# Altium schematic symbol library ClockDistribution.SchLib: 9 symbols
Pins are listed as number, name and electrical type; pins without a type are passive.

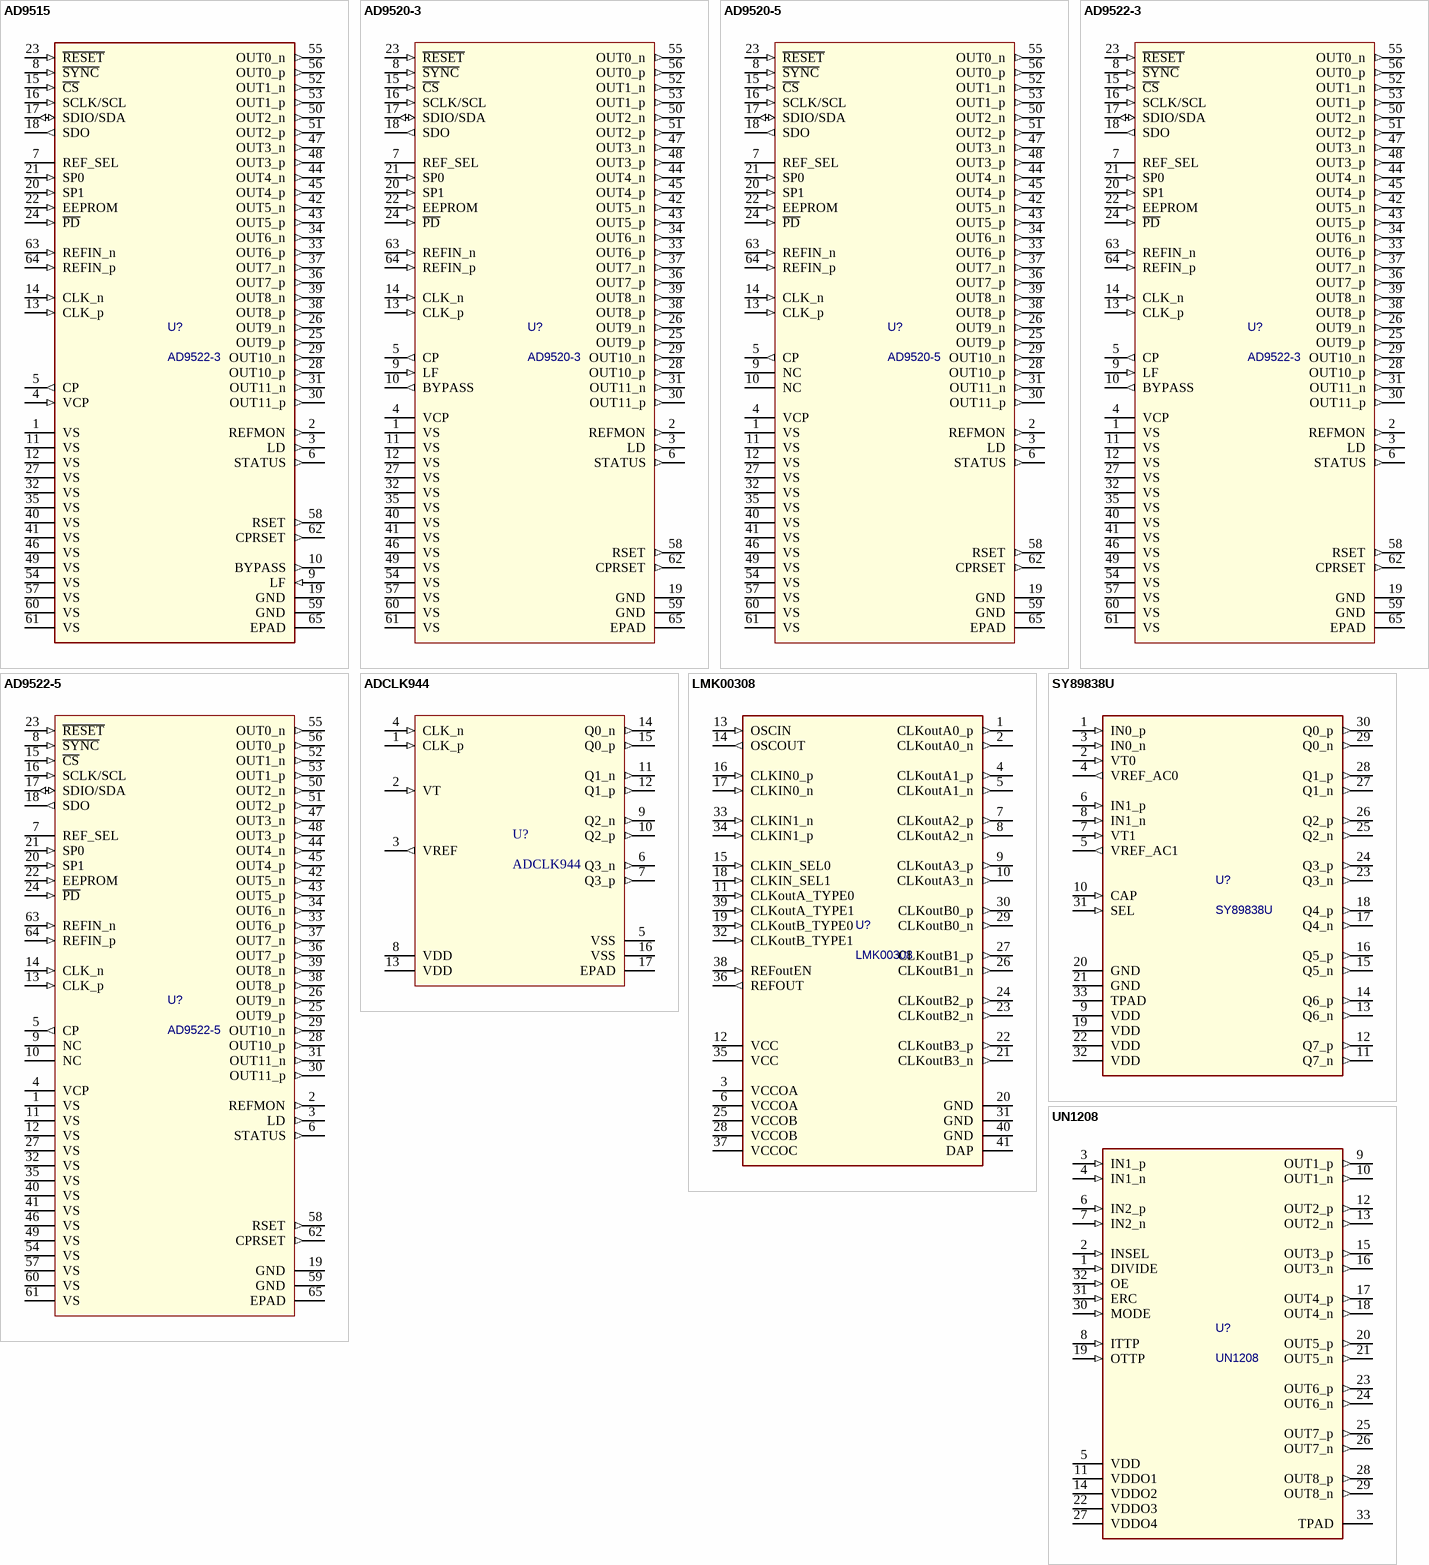
[diagram p0: symbols AD9515 to UN1208]

## AD9515
designator U?, comment AD9522-3
footprint QFN AD9522-3
pins: 1 VS (power), 2 REFMON (out) "Reference Monitor (Output). This pin has multiple selectable outputs.", 3 LD (out) "Lock Detect (Output). This pin has multiple selectable outputs.", 4 VCP (in) "Power Supply for Charge Pump (CP); VS ≤ VCP ≤ 5.25 V. VCP must still be connected to 3.3 V if the PLL is not used.", 5 CP (out) "Charge Pump (Output). This pin connects to an external loop filter. This pin can be left unconnected if the PLL is not used.", 6 STATUS (out) "Programmable Status Output.", 7 REF_SEL, 8 ~{SYNC} (in) "Manual Synchronizations and Manual Holdover. This pin initiates a manual synchronization and is used for manual holdover. Active low. This pin has an internal 30 kΩ pull-up resistor.", 9 LF (in) "Loop Filter (Input). It connects internally to the VCO control voltage node.", 10 BYPASS (out) "This pin is for bypassing the LDO to ground with a 220 nF capacitor.", 11 VS (power), 12 VS (power), 13 CLK_p (in) "Along with #CLK, this pin is the differential input for the clock distribution section.", 14 CLK_n (in) "Along with CLK, this pin is the differential input for the clock distribution section. If a single-ended input is connected to the CLK pin, connect a 0.1 μF bypass capacitor from this pin to ground.", 15 ~{CS} (in) "Serial Control Port Chip Select; Active Low. This pin has an internal 30 kΩ pull-up resistor.", 16 SCLK/SCL (in) "Serial Control Port Clock Signal. This pin has an internal 30 kΩ pull-down resistor in SPI mode but is high impedance in I²C mode.", 17 SDIO/SDA (io) "Serial Control Port Bidirectional Serial Data In/Out.", 18 SDO (out) "Serial Control Port Unidirectional Serial Data Out.", 19 GND (power), 20 SP1 (in) "Select SPI or I²C as the serial interface port and select the I²C slave address in I²C mode. Three-level logic. This pin is internally biased for the open logic level.", 21 SP0 (in) "Select SPI or I²C as the serial interface port and select the I²C slave address in I²C mode. Three-level logic. This pin is internally biased for the open logic level.", 22 EEPROM (in) "Setting this pin high selects the register values stored in the internal EEPROM to be loaded at reset and/or power-up. Setting this pin low causes the AD9522 to load the hard-coded default register values at power-up/reset. This pin has an internal 30 kΩ pull-down resistor. Note that to guarantee the proper loading of EEPROM during startup, a high-low-high pulse on the RESET pin occurs after the power supply stabilizes.", 23 ~{RESET} (in) "Chip Reset, Active Low. This pin has an internal 30 kΩ pull-up resistor.", 24 ~{PD} (in) "Chip Power-Down, Active Low. This pin has an internal 30 kΩ pull-up resistor.", 25 OUT9_p (out) "Clock Output. This pin can be configured as one side of a differential LVDS output or as a single-ended CMOS output.", 26 OUT9_n (out) "Clock Output. This pin can be configured as one side of a differential LVDS output or as a single-ended CMOS output.", 27 VS (power), 28 OUT10_p (out) "Clock Output. This pin can be configured as one side of a differential LVDS output or as a single-ended CMOS output.", 29 OUT10_n (out) "Clock Output. This pin can be configured as one side of a differential LVDS output or as a single-ended CMOS output.", 30 OUT11_p (out) "Clock Output. This pin can be configured as one side of a differential LVDS output or as a single-ended CMOS output.", 31 OUT11_n (out) "Clock Output. This pin can be configured as one side of a differential LVDS output or as a single-ended CMOS output.", 32 VS (power), 33 OUT6_p (out) "Clock Output. This pin can be configured as one side of a differential LVDS output or as a single-ended CMOS output.", 34 OUT6_n (out) "Clock Output. This pin can be configured as one side of a differential LVDS output or as a single-ended CMOS output.", 35 VS (power), 36 OUT7_p (out) "Clock Output. This pin can be configured as one side of a differential LVDS output or as a single-ended CMOS output.", 37 OUT7_n (out) "Clock Output. This pin can be configured as one side of a differential LVDS output or as a single-ended CMOS output.", 38 OUT8_p (out) "Clock Output. This pin can be configured as one side of a differential LVDS output or as a single-ended CMOS output.", 39 OUT8_n (out) "Clock Output. This pin can be configured as one side of a differential LVDS output or as a single-ended CMOS output.", 40 VS (power), 41 VS (power), 42 OUT5_n (out) "Clock Output. This pin can be configured as one side of a differential LVDS output or as a single-ended CMOS output.", 43 OUT5_p (out) "Clock Output. This pin can be configured as one side of a differential LVDS output or as a single-ended CMOS output.", 44 OUT4_n (out) "Clock Output. This pin can be configured as one side of a differential LVDS output or as a single-ended CMOS output.", 45 OUT4_p (out) "Clock Output. This pin can be configured as one side of a differential LVDS output or as a single-ended CMOS output.", 46 VS (power), 47 OUT3_n (out) "Clock Output. This pin can be configured as one side of a differential LVDS output or as a single-ended CMOS output.", 48 OUT3_p (out) "Clock Output. This pin can be configured as one side of a differential LVDS output or as a single-ended CMOS output.", 49 VS (power), 50 OUT2_n (out) "Clock Output. This pin can be configured as one side of a differential LVDS output or as a single-ended CMOS output.", 51 OUT2_p (out) "Clock Output. This pin can be configured as one side of a differential LVDS output or as a single-ended CMOS output.", 52 OUT1_n (out) "Clock Output. This pin can be configured as one side of a differential LVDS output or as a single-ended CMOS output.", 53 OUT1_p (out) "Clock Output. This pin can be configured as one side of a differential LVDS output or as a single-ended CMOS output.", 54 VS (power), 55 OUT0_n (out) "Clock Output. This pin can be configured as one side of a differential LVDS output or as a single-ended CMOS output.", 56 OUT0_p (out) "Clock Output. This pin can be configured as one side of a differential LVDS output or as a single-ended CMOS output.", 57 VS (power), 58 RSET (out) "Clock Distribution Current Set Resistor. Connect a 4.12 kΩ resistor from this pin to GND.", 59 GND (power), 60 VS (power), 61 VS (power), 62 CPRSET (out) "Charge Pump Current Set Resistor. Connect a 5.1 kΩ resistor from this pin to GND. This resistor can be omitted if the PLL is not used.", 63 REFIN_n (in) "Along with REFIN, this is the differential input for the PLL reference. Alternatively, this pin is a single-ended input for REF2.", 64 REFIN_p (in) "Along with #REFIN, this is the differential input for the PLL reference. Alternatively, this pin is a single-ended input for REF2.", 65 EPAD (power) "The exposed die pad must be connected to GND."

## AD9520-3
designator U?
12 LVPECL/24 CMOS Output Clock / Generator with Integrated 2 GHz VCO
footprint QFN AD9522-3
pins: 1 VS (power), 2 REFMON (out) "Reference Monitor (Output). This pin has multiple selectable outputs.", 3 LD (out) "Lock Detect (Output). This pin has multiple selectable outputs.", 4 VCP (power) "Power Supply for Charge Pump (CP); VS ≤ VCP ≤ 5.25 V. VCP must still be connected to 3.3 V if the PLL is not used.", 5 CP (out) "Charge Pump (Output). This pin connects to an external loop filter. This pin can be left unconnected if the PLL is not used.", 6 STATUS (out) "Programmable Status Output.", 7 REF_SEL, 8 ~{SYNC} (in) "Manual Synchronizations and Manual Holdover. This pin initiates a manual synchronization and is used for manual holdover. Active low. This pin has an internal 30 kΩ pull-up resistor.", 9 LF (in) "Loop Filter (Input). It connects internally to the VCO control voltage node.", 10 BYPASS (out) "This pin is for bypassing the LDO to ground with a 220 nF capacitor.", 11 VS (power), 12 VS (power), 13 CLK_p (in) "Along with #CLK, this pin is the differential input for the clock distribution section.", 14 CLK_n (in) "Along with CLK, this pin is the differential input for the clock distribution section. If a single-ended input is connected to the CLK pin, connect a 0.1 μF bypass capacitor from this pin to ground.", 15 ~{CS} (in) "Serial Control Port Chip Select; Active Low. This pin has an internal 30 kΩ pull-up resistor.", 16 SCLK/SCL (in) "Serial Control Port Clock Signal. This pin has an internal 30 kΩ pull-down resistor in SPI mode but is high impedance in I²C mode.", 17 SDIO/SDA (io) "Serial Control Port Bidirectional Serial Data In/Out.", 18 SDO (out) "Serial Control Port Unidirectional Serial Data Out.", 19 GND (power), 20 SP1 (in) "Select SPI or I²C as the serial interface port and select the I²C slave address in I²C mode. Three-level logic. This pin is internally biased for the open logic level.", 21 SP0 (in) "Select SPI or I²C as the serial interface port and select the I²C slave address in I²C mode. Three-level logic. This pin is internally biased for the open logic level.", 22 EEPROM (in) "Setting this pin high selects the register values stored in the internal EEPROM to be loaded at reset and/or power-up. Setting this pin low causes the AD9522 to load the hard-coded default register values at power-up/reset. This pin has an internal 30 kΩ pull-down resistor. Note that to guarantee the proper loading of EEPROM during startup, a high-low-high pulse on the RESET pin occurs after the power supply stabilizes.", 23 ~{RESET} (in) "Chip Reset, Active Low. This pin has an internal 30 kΩ pull-up resistor.", 24 ~{PD} (in) "Chip Power-Down, Active Low. This pin has an internal 30 kΩ pull-up resistor.", 25 OUT9_p (out) "Clock Output. This pin can be configured as one side of a differential LVDS output or as a single-ended CMOS output.", 26 OUT9_n (out) "Clock Output. This pin can be configured as one side of a differential LVDS output or as a single-ended CMOS output.", 27 VS (power), 28 OUT10_p (out) "Clock Output. This pin can be configured as one side of a differential LVDS output or as a single-ended CMOS output.", 29 OUT10_n (out) "Clock Output. This pin can be configured as one side of a differential LVDS output or as a single-ended CMOS output.", 30 OUT11_p (out) "Clock Output. This pin can be configured as one side of a differential LVDS output or as a single-ended CMOS output.", 31 OUT11_n (out) "Clock Output. This pin can be configured as one side of a differential LVDS output or as a single-ended CMOS output.", 32 VS (power), 33 OUT6_p (out) "Clock Output. This pin can be configured as one side of a differential LVDS output or as a single-ended CMOS output.", 34 OUT6_n (out) "Clock Output. This pin can be configured as one side of a differential LVDS output or as a single-ended CMOS output.", 35 VS (power), 36 OUT7_p (out) "Clock Output. This pin can be configured as one side of a differential LVDS output or as a single-ended CMOS output.", 37 OUT7_n (out) "Clock Output. This pin can be configured as one side of a differential LVDS output or as a single-ended CMOS output.", 38 OUT8_p (out) "Clock Output. This pin can be configured as one side of a differential LVDS output or as a single-ended CMOS output.", 39 OUT8_n (out) "Clock Output. This pin can be configured as one side of a differential LVDS output or as a single-ended CMOS output.", 40 VS (power), 41 VS (power), 42 OUT5_n (out) "Clock Output. This pin can be configured as one side of a differential LVDS output or as a single-ended CMOS output.", 43 OUT5_p (out) "Clock Output. This pin can be configured as one side of a differential LVDS output or as a single-ended CMOS output.", 44 OUT4_n (out) "Clock Output. This pin can be configured as one side of a differential LVDS output or as a single-ended CMOS output.", 45 OUT4_p (out) "Clock Output. This pin can be configured as one side of a differential LVDS output or as a single-ended CMOS output.", 46 VS (power), 47 OUT3_n (out) "Clock Output. This pin can be configured as one side of a differential LVDS output or as a single-ended CMOS output.", 48 OUT3_p (out) "Clock Output. This pin can be configured as one side of a differential LVDS output or as a single-ended CMOS output.", 49 VS (power), 50 OUT2_n (out) "Clock Output. This pin can be configured as one side of a differential LVDS output or as a single-ended CMOS output.", 51 OUT2_p (out) "Clock Output. This pin can be configured as one side of a differential LVDS output or as a single-ended CMOS output.", 52 OUT1_n (out) "Clock Output. This pin can be configured as one side of a differential LVDS output or as a single-ended CMOS output.", 53 OUT1_p (out) "Clock Output. This pin can be configured as one side of a differential LVDS output or as a single-ended CMOS output.", 54 VS (power), 55 OUT0_n (out) "Clock Output. This pin can be configured as one side of a differential LVDS output or as a single-ended CMOS output.", 56 OUT0_p (out) "Clock Output. This pin can be configured as one side of a differential LVDS output or as a single-ended CMOS output.", 57 VS (power), 58 RSET (out) "Clock Distribution Current Set Resistor. Connect a 4.12 kΩ resistor from this pin to GND.", 59 GND (power), 60 VS (power), 61 VS (power), 62 CPRSET (out) "Charge Pump Current Set Resistor. Connect a 5.1 kΩ resistor from this pin to GND. This resistor can be omitted if the PLL is not used.", 63 REFIN_n (in) "Along with REFIN, this is the differential input for the PLL reference. Alternatively, this pin is a single-ended input for REF2.", 64 REFIN_p (in) "Along with #REFIN, this is the differential input for the PLL reference. Alternatively, this pin is a single-ended input for REF2.", 65 EPAD (power) "The exposed die pad must be connected to GND."

## AD9520-5
designator U?
12 LVPECL/24 CMOS Output / Clock Generator
footprint QFN AD9522-3
pins: 1 VS (power), 2 REFMON (out) "Reference Monitor (Output). This pin has multiple selectable outputs.", 3 LD (out) "Lock Detect (Output). This pin has multiple selectable outputs.", 4 VCP (power) "Power Supply for Charge Pump (CP); VS ≤ VCP ≤ 5.25 V. VCP must still be connected to 3.3 V if the PLL is not used.", 5 CP (out) "Charge Pump (Output). This pin connects to an external loop filter. This pin can be left unconnected if the PLL is not used.", 6 STATUS (out) "Programmable Status Output.", 7 REF_SEL, 8 ~{SYNC} (in) "Manual Synchronizations and Manual Holdover. This pin initiates a manual synchronization and is used for manual holdover. Active low. This pin has an internal 30 kΩ pull-up resistor.", 9 NC, 10 NC, 11 VS (power), 12 VS (power), 13 CLK_p (in) "Along with #CLK, this pin is the differential input for the clock distribution section.", 14 CLK_n (in) "Along with CLK, this pin is the differential input for the clock distribution section. If a single-ended input is connected to the CLK pin, connect a 0.1 μF bypass capacitor from this pin to ground.", 15 ~{CS} (in) "Serial Control Port Chip Select; Active Low. This pin has an internal 30 kΩ pull-up resistor.", 16 SCLK/SCL (in) "Serial Control Port Clock Signal. This pin has an internal 30 kΩ pull-down resistor in SPI mode but is high impedance in I²C mode.", 17 SDIO/SDA (io) "Serial Control Port Bidirectional Serial Data In/Out.", 18 SDO (out) "Serial Control Port Unidirectional Serial Data Out.", 19 GND (power), 20 SP1 (in) "Select SPI or I²C as the serial interface port and select the I²C slave address in I²C mode. Three-level logic. This pin is internally biased for the open logic level.", 21 SP0 (in) "Select SPI or I²C as the serial interface port and select the I²C slave address in I²C mode. Three-level logic. This pin is internally biased for the open logic level.", 22 EEPROM (in) "Setting this pin high selects the register values stored in the internal EEPROM to be loaded at reset and/or power-up. Setting this pin low causes the AD9522 to load the hard-coded default register values at power-up/reset. This pin has an internal 30 kΩ pull-down resistor. Note that to guarantee the proper loading of EEPROM during startup, a high-low-high pulse on the RESET pin occurs after the power supply stabilizes.", 23 ~{RESET} (in) "Chip Reset, Active Low. This pin has an internal 30 kΩ pull-up resistor.", 24 ~{PD} (in) "Chip Power-Down, Active Low. This pin has an internal 30 kΩ pull-up resistor.", 25 OUT9_p (out) "Clock Output. This pin can be configured as one side of a differential LVDS output or as a single-ended CMOS output.", 26 OUT9_n (out) "Clock Output. This pin can be configured as one side of a differential LVDS output or as a single-ended CMOS output.", 27 VS (power), 28 OUT10_p (out) "Clock Output. This pin can be configured as one side of a differential LVDS output or as a single-ended CMOS output.", 29 OUT10_n (out) "Clock Output. This pin can be configured as one side of a differential LVDS output or as a single-ended CMOS output.", 30 OUT11_p (out) "Clock Output. This pin can be configured as one side of a differential LVDS output or as a single-ended CMOS output.", 31 OUT11_n (out) "Clock Output. This pin can be configured as one side of a differential LVDS output or as a single-ended CMOS output.", 32 VS (power), 33 OUT6_p (out) "Clock Output. This pin can be configured as one side of a differential LVDS output or as a single-ended CMOS output.", 34 OUT6_n (out) "Clock Output. This pin can be configured as one side of a differential LVDS output or as a single-ended CMOS output.", 35 VS (power), 36 OUT7_p (out) "Clock Output. This pin can be configured as one side of a differential LVDS output or as a single-ended CMOS output.", 37 OUT7_n (out) "Clock Output. This pin can be configured as one side of a differential LVDS output or as a single-ended CMOS output.", 38 OUT8_p (out) "Clock Output. This pin can be configured as one side of a differential LVDS output or as a single-ended CMOS output.", 39 OUT8_n (out) "Clock Output. This pin can be configured as one side of a differential LVDS output or as a single-ended CMOS output.", 40 VS (power), 41 VS (power), 42 OUT5_n (out) "Clock Output. This pin can be configured as one side of a differential LVDS output or as a single-ended CMOS output.", 43 OUT5_p (out) "Clock Output. This pin can be configured as one side of a differential LVDS output or as a single-ended CMOS output.", 44 OUT4_n (out) "Clock Output. This pin can be configured as one side of a differential LVDS output or as a single-ended CMOS output.", 45 OUT4_p (out) "Clock Output. This pin can be configured as one side of a differential LVDS output or as a single-ended CMOS output.", 46 VS (power), 47 OUT3_n (out) "Clock Output. This pin can be configured as one side of a differential LVDS output or as a single-ended CMOS output.", 48 OUT3_p (out) "Clock Output. This pin can be configured as one side of a differential LVDS output or as a single-ended CMOS output.", 49 VS (power), 50 OUT2_n (out) "Clock Output. This pin can be configured as one side of a differential LVDS output or as a single-ended CMOS output.", 51 OUT2_p (out) "Clock Output. This pin can be configured as one side of a differential LVDS output or as a single-ended CMOS output.", 52 OUT1_n (out) "Clock Output. This pin can be configured as one side of a differential LVDS output or as a single-ended CMOS output.", 53 OUT1_p (out) "Clock Output. This pin can be configured as one side of a differential LVDS output or as a single-ended CMOS output.", 54 VS (power), 55 OUT0_n (out) "Clock Output. This pin can be configured as one side of a differential LVDS output or as a single-ended CMOS output.", 56 OUT0_p (out) "Clock Output. This pin can be configured as one side of a differential LVDS output or as a single-ended CMOS output.", 57 VS (power), 58 RSET (out) "Clock Distribution Current Set Resistor. Connect a 4.12 kΩ resistor from this pin to GND.", 59 GND (power), 60 VS (power), 61 VS (power), 62 CPRSET (out) "Charge Pump Current Set Resistor. Connect a 5.1 kΩ resistor from this pin to GND. This resistor can be omitted if the PLL is not used.", 63 REFIN_n (in) "Along with REFIN, this is the differential input for the PLL reference. Alternatively, this pin is a single-ended input for REF2.", 64 REFIN_p (in) "Along with #REFIN, this is the differential input for the PLL reference. Alternatively, this pin is a single-ended input for REF2.", 65 EPAD (power) "The exposed die pad must be connected to GND."

## AD9522-3
designator U?
12 LVDS/24 CMOS Output Clock Generator / with Integrated 2 GHz VCO
footprint QFN AD9522-3
pins: 1 VS (power), 2 REFMON (out) "Reference Monitor (Output). This pin has multiple selectable outputs.", 3 LD (out) "Lock Detect (Output). This pin has multiple selectable outputs.", 4 VCP (power) "Power Supply for Charge Pump (CP); VS ≤ VCP ≤ 5.25 V. VCP must still be connected to 3.3 V if the PLL is not used.", 5 CP (out) "Charge Pump (Output). This pin connects to an external loop filter. This pin can be left unconnected if the PLL is not used.", 6 STATUS (out) "Programmable Status Output.", 7 REF_SEL, 8 ~{SYNC} (in) "Manual Synchronizations and Manual Holdover. This pin initiates a manual synchronization and is used for manual holdover. Active low. This pin has an internal 30 kΩ pull-up resistor.", 9 LF (in) "Loop Filter (Input). It connects internally to the VCO control voltage node.", 10 BYPASS (out) "This pin is for bypassing the LDO to ground with a 220 nF capacitor.", 11 VS (power), 12 VS (power), 13 CLK_p (in) "Along with #CLK, this pin is the differential input for the clock distribution section.", 14 CLK_n (in) "Along with CLK, this pin is the differential input for the clock distribution section. If a single-ended input is connected to the CLK pin, connect a 0.1 μF bypass capacitor from this pin to ground.", 15 ~{CS} (in) "Serial Control Port Chip Select; Active Low. This pin has an internal 30 kΩ pull-up resistor.", 16 SCLK/SCL (in) "Serial Control Port Clock Signal. This pin has an internal 30 kΩ pull-down resistor in SPI mode but is high impedance in I²C mode.", 17 SDIO/SDA (io) "Serial Control Port Bidirectional Serial Data In/Out.", 18 SDO (out) "Serial Control Port Unidirectional Serial Data Out.", 19 GND (power), 20 SP1 (in) "Select SPI or I²C as the serial interface port and select the I²C slave address in I²C mode. Three-level logic. This pin is internally biased for the open logic level.", 21 SP0 (in) "Select SPI or I²C as the serial interface port and select the I²C slave address in I²C mode. Three-level logic. This pin is internally biased for the open logic level.", 22 EEPROM (in) "Setting this pin high selects the register values stored in the internal EEPROM to be loaded at reset and/or power-up. Setting this pin low causes the AD9522 to load the hard-coded default register values at power-up/reset. This pin has an internal 30 kΩ pull-down resistor. Note that to guarantee the proper loading of EEPROM during startup, a high-low-high pulse on the RESET pin occurs after the power supply stabilizes.", 23 ~{RESET} (in) "Chip Reset, Active Low. This pin has an internal 30 kΩ pull-up resistor.", 24 ~{PD} (in) "Chip Power-Down, Active Low. This pin has an internal 30 kΩ pull-up resistor.", 25 OUT9_p (out) "Clock Output. This pin can be configured as one side of a differential LVDS output or as a single-ended CMOS output.", 26 OUT9_n (out) "Clock Output. This pin can be configured as one side of a differential LVDS output or as a single-ended CMOS output.", 27 VS (power), 28 OUT10_p (out) "Clock Output. This pin can be configured as one side of a differential LVDS output or as a single-ended CMOS output.", 29 OUT10_n (out) "Clock Output. This pin can be configured as one side of a differential LVDS output or as a single-ended CMOS output.", 30 OUT11_p (out) "Clock Output. This pin can be configured as one side of a differential LVDS output or as a single-ended CMOS output.", 31 OUT11_n (out) "Clock Output. This pin can be configured as one side of a differential LVDS output or as a single-ended CMOS output.", 32 VS (power), 33 OUT6_p (out) "Clock Output. This pin can be configured as one side of a differential LVDS output or as a single-ended CMOS output.", 34 OUT6_n (out) "Clock Output. This pin can be configured as one side of a differential LVDS output or as a single-ended CMOS output.", 35 VS (power), 36 OUT7_p (out) "Clock Output. This pin can be configured as one side of a differential LVDS output or as a single-ended CMOS output.", 37 OUT7_n (out) "Clock Output. This pin can be configured as one side of a differential LVDS output or as a single-ended CMOS output.", 38 OUT8_p (out) "Clock Output. This pin can be configured as one side of a differential LVDS output or as a single-ended CMOS output.", 39 OUT8_n (out) "Clock Output. This pin can be configured as one side of a differential LVDS output or as a single-ended CMOS output.", 40 VS (power), 41 VS (power), 42 OUT5_n (out) "Clock Output. This pin can be configured as one side of a differential LVDS output or as a single-ended CMOS output.", 43 OUT5_p (out) "Clock Output. This pin can be configured as one side of a differential LVDS output or as a single-ended CMOS output.", 44 OUT4_n (out) "Clock Output. This pin can be configured as one side of a differential LVDS output or as a single-ended CMOS output.", 45 OUT4_p (out) "Clock Output. This pin can be configured as one side of a differential LVDS output or as a single-ended CMOS output.", 46 VS (power), 47 OUT3_n (out) "Clock Output. This pin can be configured as one side of a differential LVDS output or as a single-ended CMOS output.", 48 OUT3_p (out) "Clock Output. This pin can be configured as one side of a differential LVDS output or as a single-ended CMOS output.", 49 VS (power), 50 OUT2_n (out) "Clock Output. This pin can be configured as one side of a differential LVDS output or as a single-ended CMOS output.", 51 OUT2_p (out) "Clock Output. This pin can be configured as one side of a differential LVDS output or as a single-ended CMOS output.", 52 OUT1_n (out) "Clock Output. This pin can be configured as one side of a differential LVDS output or as a single-ended CMOS output.", 53 OUT1_p (out) "Clock Output. This pin can be configured as one side of a differential LVDS output or as a single-ended CMOS output.", 54 VS (power), 55 OUT0_n (out) "Clock Output. This pin can be configured as one side of a differential LVDS output or as a single-ended CMOS output.", 56 OUT0_p (out) "Clock Output. This pin can be configured as one side of a differential LVDS output or as a single-ended CMOS output.", 57 VS (power), 58 RSET (out) "Clock Distribution Current Set Resistor. Connect a 4.12 kΩ resistor from this pin to GND.", 59 GND (power), 60 VS (power), 61 VS (power), 62 CPRSET (out) "Charge Pump Current Set Resistor. Connect a 5.1 kΩ resistor from this pin to GND. This resistor can be omitted if the PLL is not used.", 63 REFIN_n (in) "Along with REFIN, this is the differential input for the PLL reference. Alternatively, this pin is a single-ended input for REF2.", 64 REFIN_p (in) "Along with #REFIN, this is the differential input for the PLL reference. Alternatively, this pin is a single-ended input for REF2.", 65 EPAD (power) "The exposed die pad must be connected to GND."

## AD9522-5
designator U?
12 LVDS/24 CMOS Output / Clock Generator
footprint QFN AD9522-3
pins: 1 VS (power), 2 REFMON (out) "Reference Monitor (Output). This pin has multiple selectable outputs.", 3 LD (out) "Lock Detect (Output). This pin has multiple selectable outputs.", 4 VCP (power) "Power Supply for Charge Pump (CP); VS ≤ VCP ≤ 5.25 V. VCP must still be connected to 3.3 V if the PLL is not used.", 5 CP (out) "Charge Pump (Output). This pin connects to an external loop filter. This pin can be left unconnected if the PLL is not used.", 6 STATUS (out) "Programmable Status Output.", 7 REF_SEL, 8 ~{SYNC} (in) "Manual Synchronizations and Manual Holdover. This pin initiates a manual synchronization and is used for manual holdover. Active low. This pin has an internal 30 kΩ pull-up resistor.", 9 NC, 10 NC, 11 VS (power), 12 VS (power), 13 CLK_p (in) "Along with #CLK, this pin is the differential input for the clock distribution section.", 14 CLK_n (in) "Along with CLK, this pin is the differential input for the clock distribution section. If a single-ended input is connected to the CLK pin, connect a 0.1 μF bypass capacitor from this pin to ground.", 15 ~{CS} (in) "Serial Control Port Chip Select; Active Low. This pin has an internal 30 kΩ pull-up resistor.", 16 SCLK/SCL (in) "Serial Control Port Clock Signal. This pin has an internal 30 kΩ pull-down resistor in SPI mode but is high impedance in I²C mode.", 17 SDIO/SDA (io) "Serial Control Port Bidirectional Serial Data In/Out.", 18 SDO (out) "Serial Control Port Unidirectional Serial Data Out.", 19 GND (power), 20 SP1 (in) "Select SPI or I²C as the serial interface port and select the I²C slave address in I²C mode. Three-level logic. This pin is internally biased for the open logic level.", 21 SP0 (in) "Select SPI or I²C as the serial interface port and select the I²C slave address in I²C mode. Three-level logic. This pin is internally biased for the open logic level.", 22 EEPROM (in) "Setting this pin high selects the register values stored in the internal EEPROM to be loaded at reset and/or power-up. Setting this pin low causes the AD9522 to load the hard-coded default register values at power-up/reset. This pin has an internal 30 kΩ pull-down resistor. Note that to guarantee the proper loading of EEPROM during startup, a high-low-high pulse on the RESET pin occurs after the power supply stabilizes.", 23 ~{RESET} (in) "Chip Reset, Active Low. This pin has an internal 30 kΩ pull-up resistor.", 24 ~{PD} (in) "Chip Power-Down, Active Low. This pin has an internal 30 kΩ pull-up resistor.", 25 OUT9_p (out) "Clock Output. This pin can be configured as one side of a differential LVDS output or as a single-ended CMOS output.", 26 OUT9_n (out) "Clock Output. This pin can be configured as one side of a differential LVDS output or as a single-ended CMOS output.", 27 VS (power), 28 OUT10_p (out) "Clock Output. This pin can be configured as one side of a differential LVDS output or as a single-ended CMOS output.", 29 OUT10_n (out) "Clock Output. This pin can be configured as one side of a differential LVDS output or as a single-ended CMOS output.", 30 OUT11_p (out) "Clock Output. This pin can be configured as one side of a differential LVDS output or as a single-ended CMOS output.", 31 OUT11_n (out) "Clock Output. This pin can be configured as one side of a differential LVDS output or as a single-ended CMOS output.", 32 VS (power), 33 OUT6_p (out) "Clock Output. This pin can be configured as one side of a differential LVDS output or as a single-ended CMOS output.", 34 OUT6_n (out) "Clock Output. This pin can be configured as one side of a differential LVDS output or as a single-ended CMOS output.", 35 VS (power), 36 OUT7_p (out) "Clock Output. This pin can be configured as one side of a differential LVDS output or as a single-ended CMOS output.", 37 OUT7_n (out) "Clock Output. This pin can be configured as one side of a differential LVDS output or as a single-ended CMOS output.", 38 OUT8_p (out) "Clock Output. This pin can be configured as one side of a differential LVDS output or as a single-ended CMOS output.", 39 OUT8_n (out) "Clock Output. This pin can be configured as one side of a differential LVDS output or as a single-ended CMOS output.", 40 VS (power), 41 VS (power), 42 OUT5_n (out) "Clock Output. This pin can be configured as one side of a differential LVDS output or as a single-ended CMOS output.", 43 OUT5_p (out) "Clock Output. This pin can be configured as one side of a differential LVDS output or as a single-ended CMOS output.", 44 OUT4_n (out) "Clock Output. This pin can be configured as one side of a differential LVDS output or as a single-ended CMOS output.", 45 OUT4_p (out) "Clock Output. This pin can be configured as one side of a differential LVDS output or as a single-ended CMOS output.", 46 VS (power), 47 OUT3_n (out) "Clock Output. This pin can be configured as one side of a differential LVDS output or as a single-ended CMOS output.", 48 OUT3_p (out) "Clock Output. This pin can be configured as one side of a differential LVDS output or as a single-ended CMOS output.", 49 VS (power), 50 OUT2_n (out) "Clock Output. This pin can be configured as one side of a differential LVDS output or as a single-ended CMOS output.", 51 OUT2_p (out) "Clock Output. This pin can be configured as one side of a differential LVDS output or as a single-ended CMOS output.", 52 OUT1_n (out) "Clock Output. This pin can be configured as one side of a differential LVDS output or as a single-ended CMOS output.", 53 OUT1_p (out) "Clock Output. This pin can be configured as one side of a differential LVDS output or as a single-ended CMOS output.", 54 VS (power), 55 OUT0_n (out) "Clock Output. This pin can be configured as one side of a differential LVDS output or as a single-ended CMOS output.", 56 OUT0_p (out) "Clock Output. This pin can be configured as one side of a differential LVDS output or as a single-ended CMOS output.", 57 VS (power), 58 RSET (out) "Clock Distribution Current Set Resistor. Connect a 4.12 kΩ resistor from this pin to GND.", 59 GND (power), 60 VS (power), 61 VS (power), 62 CPRSET (out) "Charge Pump Current Set Resistor. Connect a 5.1 kΩ resistor from this pin to GND. This resistor can be omitted if the PLL is not used.", 63 REFIN_n (in) "Along with REFIN, this is the differential input for the PLL reference. Alternatively, this pin is a single-ended input for REF2.", 64 REFIN_p (in) "Along with #REFIN, this is the differential input for the PLL reference. Alternatively, this pin is a single-ended input for REF2.", 65 EPAD (power) "The exposed die pad must be connected to GND."

## ADCLK944
designator U?
Manufacturer: Analog Devices; Part number: ADCLK944BCPZ
footprint QFN-16 (16LFCSP)
pins: 1 CLK_p (in) "Differential Input (Positive).", 2 VT (in) "Center Tap. This pin provides the center tap of a 100 Ω input resistor for the CLK and CLK inputs.", 3 VREF (out) "Reference Voltage. This pin provides the reference voltage for biasing ac-coupled CLK and CLK inputs.", 4 CLK_n (in) "Differential Input (Negative).", 5 VSS (power) "Negative Supply Pin.", 6 Q3_n (out) "Differential LVPECL Outputs.", 7 Q3_p (out) "Differential LVPECL Outputs.", 8 VDD (power) "Positive Supply Pin.", 9 Q2_n (out) "Differential LVPECL Outputs.", 10 Q2_p (out) "Differential LVPECL Outputs.", 11 Q1_n (out) "Differential LVPECL Outputs.", 12 Q1_p (out) "Differential LVPECL Outputs.", 13 VDD (power) "Positive Supply Pin.", 14 Q0_n (out) "Differential LVPECL Outputs.", 15 Q0_p (out) "Differential LVPECL Outputs.", 16 VSS (power) "Negative Supply Pin.", 17 EPAD (power) "The exposed pad must be connected to VSS."

## LMK00308
designator U?
footprint WQFN40 (RTA0040A)
pins: 1 CLKoutA0_p (out) "Differential clock output A0. Output type set by CLKoutA_TYPE pins.", 2 CLKoutA0_n (out) "Differential clock output A0. Output type set by CLKoutA_TYPE pins.", 3 VCCOA (power) "Power supply for Bank A Output buffers. VCCOA can operate from 3.3 V or 2.5 V. The VCCOA pins are internally tied together. Bypass with a 0.1 uF low-ESR capacitor placed very close to each Vcco pin.", 4 CLKoutA1_p (out) "Differential clock output A1. Output type set by CLKoutA_TYPE pins.", 5 CLKoutA1_n (out) "Differential clock output A1. Output type set by CLKoutA_TYPE pins.", 6 VCCOA (power) "Power supply for Bank A Output buffers. VCCOA can operate from 3.3 V or 2.5 V. The VCCOA pins are internally tied together. Bypass with a 0.1 uF low-ESR capacitor placed very close to each Vcco pin.", 7 CLKoutA2_p (out) "Differential clock output A2. Output type set by CLKoutA_TYPE pins.", 8 CLKoutA2_n (out) "Differential clock output A2. Output type set by CLKoutA_TYPE pins.", 9 CLKoutA3_p (out) "Differential clock output A3. Output type set by CLKoutA_TYPE pins.", 10 CLKoutA3_n (out) "Differential clock output A3. Output type set by CLKoutA_TYPE pins.", 11 CLKoutA_TYPE0 (in) "Bank A output buffer type selection pins. CMOS control input with internal pull-down resistor.", 12 VCC (power) "Power supply for Core and Input buffer blocks. VCC can operate from 3.3 V. Bypass with a 0.1 uF low-ESR capacitor placed very close to each Vcc pin.", 13 OSCIN (in) "Input for crystal. Can also be driven by a XO, TCXO, or other external single-ended clock.", 14 OSCOUT (out) "Output for crystal. Leave OSCout floating if OSCin is driven by a singleended clock.", 15 CLKIN_SEL0 (in) "Clock input selection pins. CMOS control input with internal pull-down resistor.", 16 CLKIN0_p (in) "Universal clock input 0 (differential/single-ended).", 17 CLKIN0_n (in) "Universal clock input 0 (differential/single-ended).", 18 CLKIN_SEL1 (in) "Clock input selection pins. CMOS control input with internal pull-down resistor.", 19 CLKoutB_TYPE0 (in) "Bank B output buffer type selection pins. CMOS control input with internal pull-down resistor.", 20 GND (power) "Ground.", 21 CLKoutB3_n (out) "Differential clock output B3. Output type set by CLKoutA_TYPE pins.", 22 CLKoutB3_p (out) "Differential clock output B3. Output type set by CLKoutA_TYPE pins.", 23 CLKoutB2_n (out) "Differential clock output B2. Output type set by CLKoutA_TYPE pins.", 24 CLKoutB2_p (out) "Differential clock output B2. Output type set by CLKoutA_TYPE pins.", 25 VCCOB (power) "Power supply for Bank A Output buffers. VCCOA can operate from 3.3 V or 2.5 V. The VCCOA pins are internally tied together. Bypass with a 0.1 uF low-ESR capacitor placed very close to each Vcco pin.", 26 CLKoutB1_n (out) "Differential clock output B1. Output type set by CLKoutA_TYPE pins.", 27 CLKoutB1_p (out) "Differential clock output B1. Output type set by CLKoutA_TYPE pins.", 28 VCCOB (power) "Power supply for Bank A Output buffers. VCCOA can operate from 3.3 V or 2.5 V. The VCCOA pins are internally tied together. Bypass with a 0.1 uF low-ESR capacitor placed very close to each Vcco pin.", 29 CLKoutB0_n (out) "Differential clock output B0. Output type set by CLKoutA_TYPE pins.", 30 CLKoutB0_p (out) "Differential clock output B0. Output type set by CLKoutA_TYPE pins.", 31 GND (power) "Ground.", 32 CLKoutB_TYPE1 (in) "Bank B output buffer type selection pins. CMOS control input with internal pull-down resistor.", 33 CLKIN1_n (in) "Universal clock input 1 (differential/single-ended).", 34 CLKIN1_p (in) "Universal clock input 1 (differential/single-ended).", 35 VCC (power) "Power supply for Core and Input buffer blocks. VCC can operate from 3.3 V. Bypass with a 0.1 uF low-ESR capacitor placed very close to each Vcc pin.", 36 REFOUT (out) "LVCMOS reference output. Enable output by pulling REFout_EN pin high.", 37 VCCOC (power) "Power supply for REFout Output buffer. VCCOC can operate from 3.3 V or 2.5 V. Bypass with a 0.1 uF low-ESR capacitor placed very close to each Vcco pin.", 38 REFoutEN (in) "REFout enable input. Enable signal is internally synchronized to selected. CMOS control input with internal pull-down resistor.", 39 CLKoutA_TYPE1 (in) "Bank A output buffer type selection pins. CMOS control input with internal pull-down resistor.", 40 GND (power) "Ground.", 41 DAP (power) "Die Attach Pad. Connect to the PCB ground plane for heat dissipation."

## SY89838U
designator U?
footprint VQFN32 (TI RHB0032E)
pins: 1 IN0_p (in) "Universal Input 1 – Positive Terminal.", 2 VT0 (in) "Input termination center-tup.", 3 IN0_n (in) "Universal Input 0 – Negative Terminal, Ground if using IN0 in single-ended mode.", 4 VREF_AC0 (out) "Reference voltage.", 5 VREF_AC1 (out) "Reference voltage.", 6 IN1_p (in) "Universal Input 1 – Positive Terminal.", 7 VT1 (in) "Input termination center-tup.", 8 IN1_n (in) "Universal Input 2 – Negative Terminal.", 9 VDD (power) "Device Power Supply, Provides power to the input section and clock distribution section. Use a power supply voltage that corresponds to the switching levels of clock input(s) (i.e. 2.5V).", 10 CAP (in) "Power-On reset initialization capacitor.", 11 Q7_n (out) "Output – Negative Terminal", 12 Q7_p (out) "Output – Positive Terminal", 13 Q6_n (out) "Output – Negative Terminal", 14 Q6_p (out) "Output – Positive Terminal", 15 Q5_n (out) "Output – Negative Terminal", 16 Q5_p (out) "Output – Positive Terminal", 17 Q4_n (out) "Output – Negative Terminal", 18 Q4_p (out) "Output – Positive Terminal", 19 VDD (power) "2.5V VDD", 20 GND (power) "Power supply ground.", 21 GND (power) "Power supply ground.", 22 VDD (power) "2.5V VDD", 23 Q3_n (out) "Output – Negative Terminal", 24 Q3_p (out) "Output – Positive Terminal", 25 Q2_n (out) "Output – Negative Terminal", 26 Q2_p (out) "Output – Positive Terminal", 27 Q1_n (out) "Output – Negative Terminal", 28 Q1_p (out) "Output – Positive Terminal", 29 Q0_n (out) "Output – Negative Terminal", 30 Q0_p (out) "Output – Positive Terminal", 31 SEL (in) "Input selector pin.  This one has internal pull-up resistor (25k). In1 is default input.", 32 VDD (power) "2.5V VDD", 33 TPAD (power) "Power supply ground and thermal relief"

## UN1208
designator U?
footprint VQFN32 (TI RHB0032E)
pins: 1 DIVIDE (in) "Input Divider Pin Control (HIGH = /4, LOW = /2, OPEN = /1).", 2 INSEL (in) "Input Multiplexer Control (IN1 - GND, IN2 - Vdd, AUTO - N.C.).", 3 IN1_p (in) "Universal Input 1 – Positive Terminal.", 4 IN1_n (in) "Universal Input 1 – Negative Terminal, Ground if using IN1 in single-ended mode.", 5 VDD (power) "Device Power Supply, Provides power to the input section and clock distribution section. Use a power supply voltage that corresponds to the switching levels of clock input(s) (i.e. 1.8V, 2.5V, or 3.3V).", 6 IN2_p (in) "Universal Input 2 – Positive Terminal.", 7 IN2_n (in) "Universal Input 2 – Negative Terminal, Ground if using IN1 in single-ended mode.", 8 ITTP (in) "Input Type Select (HIGH = HCSL, LOW = LVDS, OPEN = LVCMOS)", 9 OUT1_p (out) "Output 1 – Positive Terminal", 10 OUT1_n (out) "Output 1 – Negative Terminal", 11 VDDO1 (power) "Output Power Supply – OUT1, OUT2", 12 OUT2_p (out) "Output 2 – Positive Terminal", 13 OUT2_n (out) "Output 2 – Negative Terminal", 14 VDDO2 (power) "Output Power Supply – OUT3, OUT4; Output bank OUT1 – OUT4 regulator power supply (apply power if any of OUT1 – OUT4 are needed)", 15 OUT3_p (out) "Output 3 – Positive Terminal", 16 OUT3_n (out) "Output 3 – Negative Terminal", 17 OUT4_p (out) "Output 4 – Positive Terminal", 18 OUT4_n (out) "Output 4 – Negative Terminal", 19 OTTP (in) "Output Type Select (HIGH = HCSL, LOW = LVDS, OPEN = LVCMOS)", 20 OUT5_p (out) "Output 5 – Positive Terminal", 21 OUT5_n (out) "Output 5 – Negative Terminal", 22 VDDO3 (power) "Output Power Supply - OUT5, OUT6", 23 OUT6_p (out) "Output 6 – Positive Terminal", 24 OUT6_n (out) "Output 6 – Negative Terminal", 25 OUT7_p (out) "Output 7 – Positive Terminal", 26 OUT7_n (out) "Output 7 – Negative Terminal", 27 VDDO4 (power) "Output Power Supply – OUT7, OUT8 Output bank OUT5 – OUT8 regulator power supply (apply power if any of OUT5 – OUT8 are needed)", 28 OUT8_p (out) "Output 8 – Positive Terminal", 29 OUT8_n (out) "Output 8 – Negative Terminal", 30 MODE (in) "Device Control Mode Select. OPEN = Device Configured via pins (Pin Mode). HIGH = Device Configured via I2C.  LOW = Device Configured via SPI.", 31 ERC (in) "Output Edge Rate Control.  HIGH = Medium, LOW = Slow, OPEN = Fast.", 32 OE (in) "Device Output Enable. HIGH = Enable, LOW = Disable.", 33 TPAD (power) "Power supply ground and thermal relief"